# Altium schematic symbol library Pi_PICO_SC0915.SchLib: 1 symbol
Pins are listed as number, name and electrical type; pins without a type are passive.

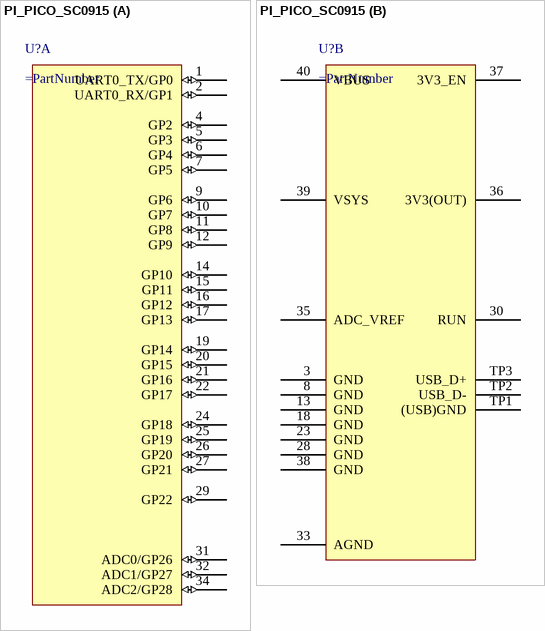
[diagram p0: symbol PI_PICO_SC0915]

## PI_PICO_SC0915
designator U?
part A pins: 1 UART0_TX/GP0 (io), 2 UART0_RX/GP1 (io), 4 GP2 (io), 5 GP3 (io), 6 GP4 (io), 7 GP5 (io), 9 GP6 (io), 10 GP7 (io), 11 GP8 (io), 12 GP9 (io), 14 GP10 (io), 15 GP11 (io), 16 GP12 (io), 17 GP13 (io), 19 GP14 (io), 20 GP15 (io), 21 GP16 (io), 22 GP17 (io), 24 GP18 (io), 25 GP19 (io), 26 GP20 (io), 27 GP21 (io), 29 GP22 (io), 31 ADC0/GP26 (io), 32 ADC1/GP27 (io), 34 ADC2/GP28 (io)
part B pins: 3 GND, 8 GND, 13 GND, 18 GND, 23 GND, 28 GND, 30 RUN, 33 AGND, 35 ADC_VREF, 36 3V3(OUT), 37 3V3_EN, 38 GND, 39 VSYS, 40 VBUS, TP1 (USB)GND, TP2 USB_D-, TP3 USB_D+